# EAGLE library part SSW-105-02-S-Q (library con-samtec)
THROUGH-HOLE .025" SQ POST SOCKET Source: Samtec SSW.pdf
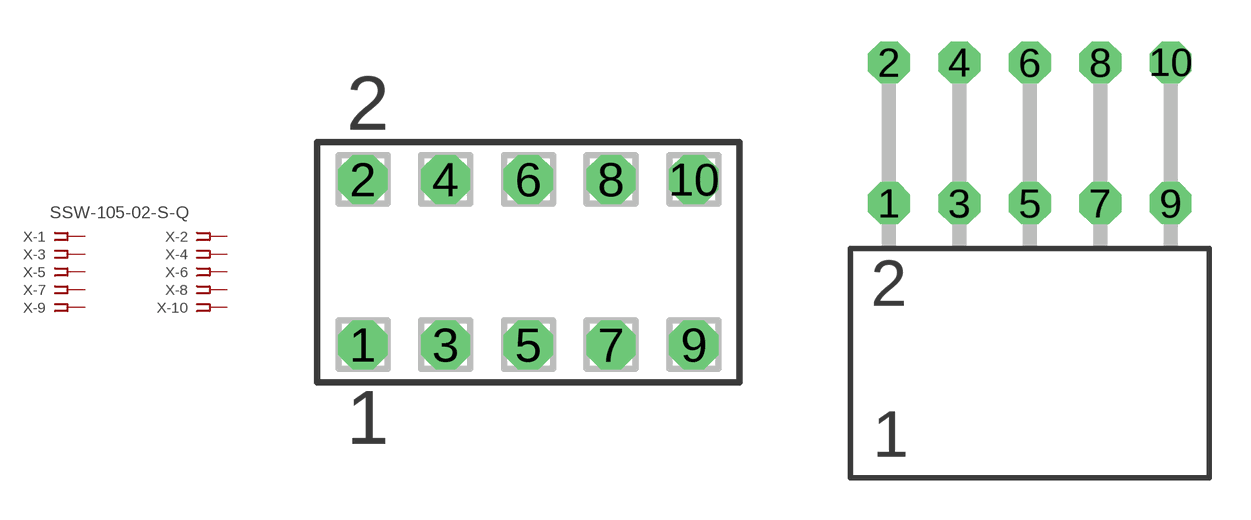
[diagram p143: symbol with the pads of SSW-105-02-S-Q; footprints SSW-105-02-S-Q, SSW-105-02-S-Q-RA]

Designator prefix X; gates -1=FPINV -2=FPIN -3=FPIN -4=FPIN -5=FPIN -6=FPIN -7=FPIN -8=FPIN -9=FPIN -10=FPIN

## SSW-105-02-S-Q (MPN: SSW-105-02-S-Q; OC_FARNELL: unknown; OC_NEWARK: 82P2928)  [SSW-105-02-S-Q]
1  -1:1  pas
2  -2:1  pas
3  -3:1  pas
4  -4:1  pas
5  -5:1  pas
6  -6:1  pas
7  -7:1  pas
8  -8:1  pas
9  -9:1  pas
10  -10:1  pas

## SSW-105-02-S-QRA (MPN: SSW-105-02-S-Q-RA; OC_FARNELL: unknown; OC_NEWARK: 82P2929)  [SSW-105-02-S-Q-RA]
Pads as for SSW-105-02-S-Q

## Footprint SSW-105-02-S-Q (pad centres in mm)
THROUGH-HOLE .025" SQ POST SOCKET Source: Samtec SSW.pdf
drill 1 pad 1.5 octagon: 1 -5.08,-2.54; 2 -5.08,2.54; 3 -2.54,-2.54; 4 -2.54,2.54; 5 0,-2.54; 6 0,2.54; 7 2.54,-2.54; 8 2.54,2.54; 9 5.08,-2.54; 10 5.08,2.54

## Footprint SSW-105-02-S-Q-RA (pad centres in mm)
THROUGH-HOLE .025" SQ POST SOCKET Source: Samtec SSW.pdf
drill 1 pad 1.5 octagon: 1 -5.08,1.524; 2 -5.08,6.604; 3 -2.54,1.524; 4 -2.54,6.604; 5 0,1.524; 6 0,6.604; 7 2.54,1.524; 8 2.54,6.604; 9 5.08,1.524; 10 5.08,6.604